# Altium schematic symbol library ICs_EFR.SchLib: 131 symbols (part 2 of 4)
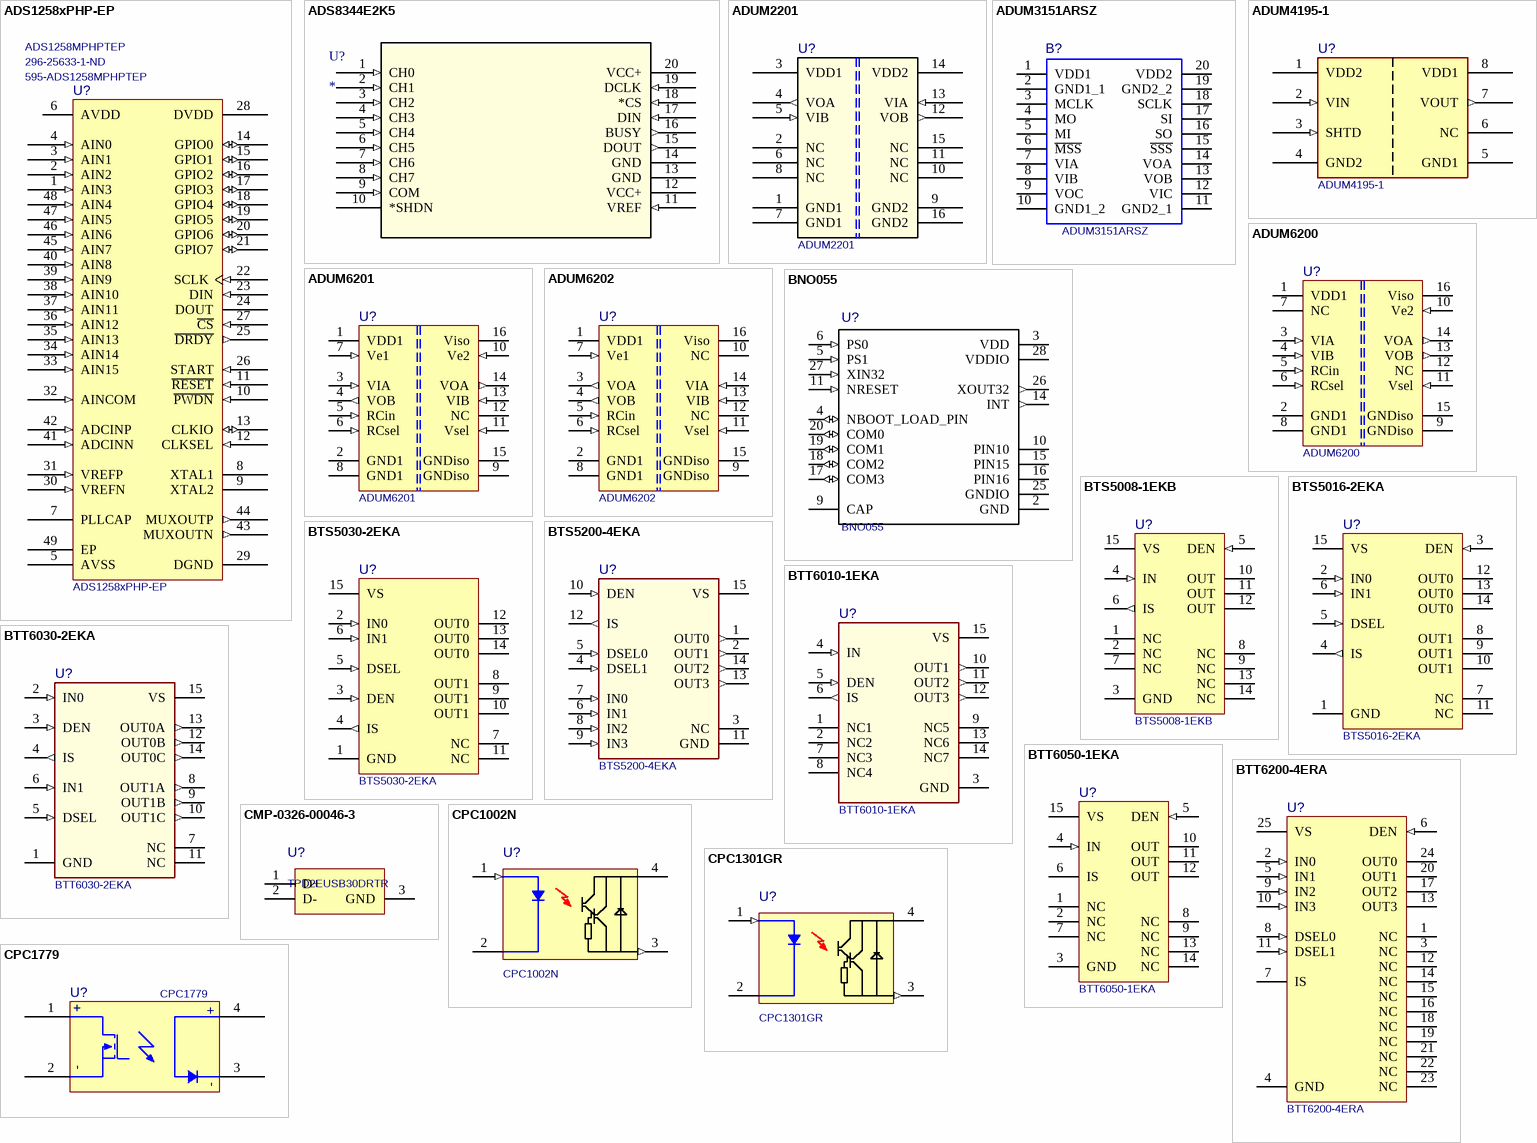
[diagram p9: symbols ADS1258xPHP-EP to CPC1779]

## BTT6030-2EKA
designator U?
Smart High-Side Power Switch, Dual Channel, 32 mOhm; Manufacturer: Infineon Technologies; Manufacturer P/N: BTT6030-2EKA; PackageReference: PG-DSO-14-40 EP; ComponentLink1Description: Datasheet; ComponentLink1URL: https://www.infineon.com/dgdl/Infineon-BTT6030-2EKA-DataSheet-v01_01-EN.pdf?fileId=5546d4626da6c043016dc9516a1f39b6; ComponentLink2Description: Manufacturer; ComponentLink2URL: https://www.infineon.com/cms/en/product/power/smart-low-side-high-side-switches/automotive-smart-high-side-switch-profet/profet-24v/btt6030-2eka/; Mounting Technology: SMT
footprint INF-PG-DSO-14-40_L (SOP, 14-Leads, Body 8.65x3.9mm, Pitch 1.27mm, Thermal Pad 6.5x2.75mm, IPC High Density)
footprint INF-PG-DSO-14-40_N (SOP, 14-Leads, Body 8.65x3.9mm, Pitch 1.27mm, Thermal Pad 6.5x2.75mm, IPC Medium Density)
footprint INF-PG-DSO-14-40_M (SOP, 14-Leads, Body 8.65x3.9mm, Pitch 1.27mm, Thermal Pad 6.5x2.6mm, IPC Low Density)
pins: 1 GND (power) "Ground", 2 IN0 (in) "Input channel 0; Input signal for channel 0 activation.", 3 DEN (in) "Diagnostic Enable; Digital signal to enable/disable the diagnosis of the device.", 4 IS (out) "Sense; Sense current of the selected channel.", 5 DSEL (in) "Diagnostic Selection; Digital signal to select the channel to be diagnosed.", 6 IN1 (in) "Input channel 1; Input signal for channel 1 activation.", 7 NC "Not Connected; No internal connection to the chip.", 8 OUT1A (out) "Output 1; Protected high side power output channel 1.", 9 OUT1B (out) "Output 1; Protected high side power output channel 1.", 10 OUT1C (out) "Output 1; Protected high side power output channel 1.", 11 NC "Not Connected; No internal connection to the chip.", 12 OUT0B (out) "OUTput 0; Protected high side power output channel 0.", 13 OUT0A (out) "OUTput 0; Protected high side power output channel 0.", 14 OUT0C (out) "OUTput 0; Protected high side power output channel 0.", 15 VS (power) "Voltage Supply; Battery voltage"

## BTT6050-1EKA
designator U?
Smart High-Side Power Switch, 5 to 36 V, -40 to 150 degC, PG-DSO-14, Reel, Green; Manufacturer: Infineon; toff (max): 150 us; Ptot (max): 1.6 W; IL (nom)min - all channels active: 4.5 A; Channels: 1; IL(SC): 38 A; Recommended Operating Voltage Max.: 36 V; Green: TRUE; Diagnostic: Sense; Recommended Operating Voltage Min.: 5 V; ComponentLink2URL: https://datasheet.ciiva.com/29899/infineon-btt6050-1eka-ds-v01-00-en-29899189.pdf?src-supplier=Avnet; ton (max): 150 us; PackageDescription: 14-Pin Plastic (Green) Dual Small Outline Package, 8.65 x 3.9 mm Body, 1.27 mm Pitch; PackageVersion: Apr-12; Halogen-free: TRUE; Manufacturer P/N: BTT6050-1EKA; ComponentLink3URL: http://www.infineon.com/cms/packages/SMD_-_Surface_Mounted_Devices/P-PG-DSO/P-PG-DSO-14-33x_-40x_-43.html?__locale=en; PackageReference: PG-DSO-14-47 EP; Mounting: SMD; DatasheetVersion: Rev. 1.0; Load Current (typ): 4.5 A; IL (nom)min - one channel active: 4.5 A; ComponentLink1URL: https://www.mouser.de/Search/Refine?N=4294759026&Keyword=726-BTT6050-1EKA&utm_source=octopart&utm_medium=aggregator&utm_campaign=726-BTT6050-1EKA&utm_content=Infineon; ComponentLink1Description: Manufacturer URL; ComponentLink2Description: Datasheet; IL (SCp): 38 A; Code_JEDEC: MS-012; Mounting Technology: SMT; Packing: Reel; ComponentLink3Description: Package Specification
footprint INF-PG-DSO-14-47 EP_M (SOP, 14-Leads, Body 8.65x3.9mm, Pitch 1.27mm, Thermal Pad 6.5x2.75mm, IPC Low Density)
pins: 1 NC "Not Connected; No internal connection to the chip", 2 NC "Not Connected; No internal connection to the chip", 3 GND (power) "GrouND; Ground connection", 4 IN (in) "INput channel; Input signal for channel activation", 5 DEN (in) "Diagnostic ENable; Digital signal to enable/disable the diagnosis of the device", 6 IS (hiz) "Sense; Sense current of the selected channel", 7 NC "Not Connected; No internal connection to the chip", 8 NC "Not Connected; No internal connection to the chip", 9 NC "Not Connected; No internal connection to the chip", 10 OUT (power) "OUTput; Protected high side power output channel", 11 OUT (power) "OUTput; Protected high side power output channel", 12 OUT (power) "OUTput; Protected high side power output channel", 13 NC "Not Connected; No internal connection to the chip", 14 NC "Not Connected; No internal connection to the chip", 15 VS (power) "Voltage Supply; Battery voltage"

## BTT6200-4ERA
designator U?
4ch Switch with Sense Function, 1 A; Manufacturer P/N: BTT6200-4EMA; Manufacturer: Infineon; Voltage_range: 5 V ... 36 V; Nominal load current (all channels active): 1 A; Nominal load current (one channel active): 1.5 A; Typical current sense ratio: 300; Maximum ON state resistance at   T  J   = 150 °C per channel: 400 m  Ω; ComponentLink1Description: Datasheet; ComponentLink1URL: https://www.infineon.com/dgdl/Infineon-BTT6200-4EMA-DataSheet-v01_00-EN.pdf?fileId=5546d4626da6c043016dc935c44a399f; ComponentLink2Description: Manufacturer; ComponentLink2URL: https://www.infineon.com/cms/en/product/power/smart-low-side-high-side-switches/automotive-smart-high-side-switch-profet/profet-24v/btt6200-4ema/; Mounting Technology: SMT
footprint PG-SSOP-24-14 (SOP, 24-Leads, Body 8,65x3,90mm, Pitch 0,65mm, Thermal Pad 6,65x2,90mm, IPC Medium Density)
pins: 1 NC "Not Connected; No internal connection to the chip", 2 IN0 (in) "INput channel 0; Input signal for channel 0 activation", 3 NC "Not Connected; No internal connection to the chip", 4 GND (power), 5 IN1 (in) "INput channel 1; Input signal for channel 1 activation", 6 DEN (in) "Diagnostic ENable; Digital signal to enable/disable the diagnosis of the device", 7 IS (hiz) "Sense; Sense current of the selected channel", 8 DSEL0 (in) "Diagnostic SELection; Digital signal to select the channel to be diagnosed", 9 IN2 (in) "INput channel 2; Input signal for channel 2 activation", 10 IN3 (in) "INput channel 3; Input signal for channel 3 activation", 11 DSEL1 (in) "Diagnostic SELection; Digital signal to select the channel to be diagnosed", 12 NC "Not Connected; No internal connection to the chip", 13 OUT3 (power) "OUTput 3; Protected high side power output channel 3", 14 NC "Not Connected; No internal connection to the chip", 15 NC "Not Connected; No internal connection to the chip", 16 NC "Not Connected; No internal connection to the chip", 17 OUT2 (power) "OUTput 2; Protected high side power output channel 2", 18 NC "Not Connected; No internal connection to the chip", 19 NC "Not Connected; No internal connection to the chip", 20 OUT1 (power) "OUTput 1; Protected high side power output channel 1", 21 NC "Not Connected; No internal connection to the chip", 22 NC "Not Connected; No internal connection to the chip", 23 NC "Not Connected; No internal connection to the chip", 24 OUT0 (power) "OUTput 0; Protected high side power output channel 0", 25 VS (power) "Voltage Supply; Battery voltage"

## CMP-0326-00046-3
designator U?, comment TPD2EUSB30DRTR
ESD Solution for Super-Speed (6 Gbps) USB 3.0 Interface, 2 Channels, -40 to +85 degC, 3-pin SOT (DRT), Green (Rohs & No Sb/Br); Manufacturer: Texas Instruments; Differential Capacitance(pF): 0.01; Breakdown Voltage(Min)(V): 9; HDMI: TRUE; IEC 61000-4-2 Air-Gap(+/- kV): 8; IO Leakage Current(nA): 10; IO Capacitance(Typ)(pF): 0.7; Mounting Technology: SMT; PackageDescription: 3-Flat Lead Plastic Small Outline, 1 x 1 mm (inc leads), 0.35 mm Pitch; IEC 61000-4-2 Contact(+/- kV): 8; USB Super Speed: TRUE; Eco-Plan: Green (RoHS & no Sb/Br); USB High Speed: TRUE; PackageReference: DRT0003A; SubFamily: ESD Solution; USB Full Speed: TRUE; ComponentLink1Description: Datasheet; ComponentLink2URL: SamplesURL:http://www.ti.com/product/tpd2eusb30#samples; PackageVersion: revD, Jun-2008; ComponentLink2Description: URL Link1; 1394 / Firewire: TRUE; Manufacturer P/N: TPD2EUSB30DRTR; ComponentLink1URL: http://www.ti.com/general/docs/lit/getliterature.tsp?genericPartNumber=TPD2EUSB30&fileType=pdf; DatasheetVersion: SLVSAC2C; Serial ATA / eSATA: TRUE
footprint DRT0003A (SOTFL, 3-Leads, Body 1x1mm (inc leads), Pitch 0.35mm)
pins: 1 D+ "High-speed ESD clamp, provides ESD protection to the high-speed differential data line.", 2 D- "High-speed ESD clamp, provides ESD protection to the high-speed differential data line.", 3 GND (power) "Ground"

## CPC1002N
designator U?
2mA Diodenstrom, 60V Breakdown, 700 mA; Manufacturer: IXYS SEMICONDUCTOR; Height (mm): 2.055; Manufacturer P/N: CPC1002N; ComponentLink1Description: Mouser-Link; ComponentLink1URL: https://www.mouser.de/ProductDetail/IXYS-Integrated-Circuits/CPC1002N?qs=h2iAtNzNjMSWxW51nm%252BAcA%3D%3D; ComponentLink2Description: Datasheet; ComponentLink2URL: https://www.mouser.de/datasheet/2/240/CPC1002N-1546124.pdf; Mounting Technology: SMT
footprint SOP254P610X206-4N
pins: 1 IN+ (in), 2 IN-, 3 OUT2 (out), 4 OUT1 (power)

## CPC1301GR
designator U?
1mA Diodenstrom, 350V Breakdown; Manufacturer: IXYS SEMICONDUCTOR; Manufacturer P/N: CPC1301GR; ComponentLink1Description: Datenblatt von IXYS-Website; ComponentLink1URL: http://www.ixysic.com/home/pdfs.nsf/www/CPC1301.pdf/$file/CPC1301.pdf; ComponentLink2Description: digi-key Produkt; ComponentLink2URL: https://www.mouser.de/datasheet/2/240/CPC1002N-1546124.pdf; Mounting Technology: SMT
footprint SOP254P952X335-4N
pins: 1 IN+ (in), 2 IN-, 3 OUT2 (out), 4 OUT1 (power)

## CPC1779
designator U?
Single-Pole, Normally Open  ISOPLUS-264 DC Power Relay; Manufacturer: IXYS; Manufacturer P/N: CPC1779J; Pin Number: 4; ComponentLink1Description: Datasheet; ComponentLink1URL: http://ixapps.ixys.com/DataSheet/CPC1779.pdf; Mounting Technology: THT; Supplier 1: Mouser; Supplier Part Number 1: 849-CPC1779J
footprint ISOPLUS-264 (ISOPLUS-264, 4-Pin, THT)
footprint ISOPLUS-264 with Heatsink (ISOPLUS-264, 4-Pin, THT)
pins: 1, 2, 3, 4
text: +; -

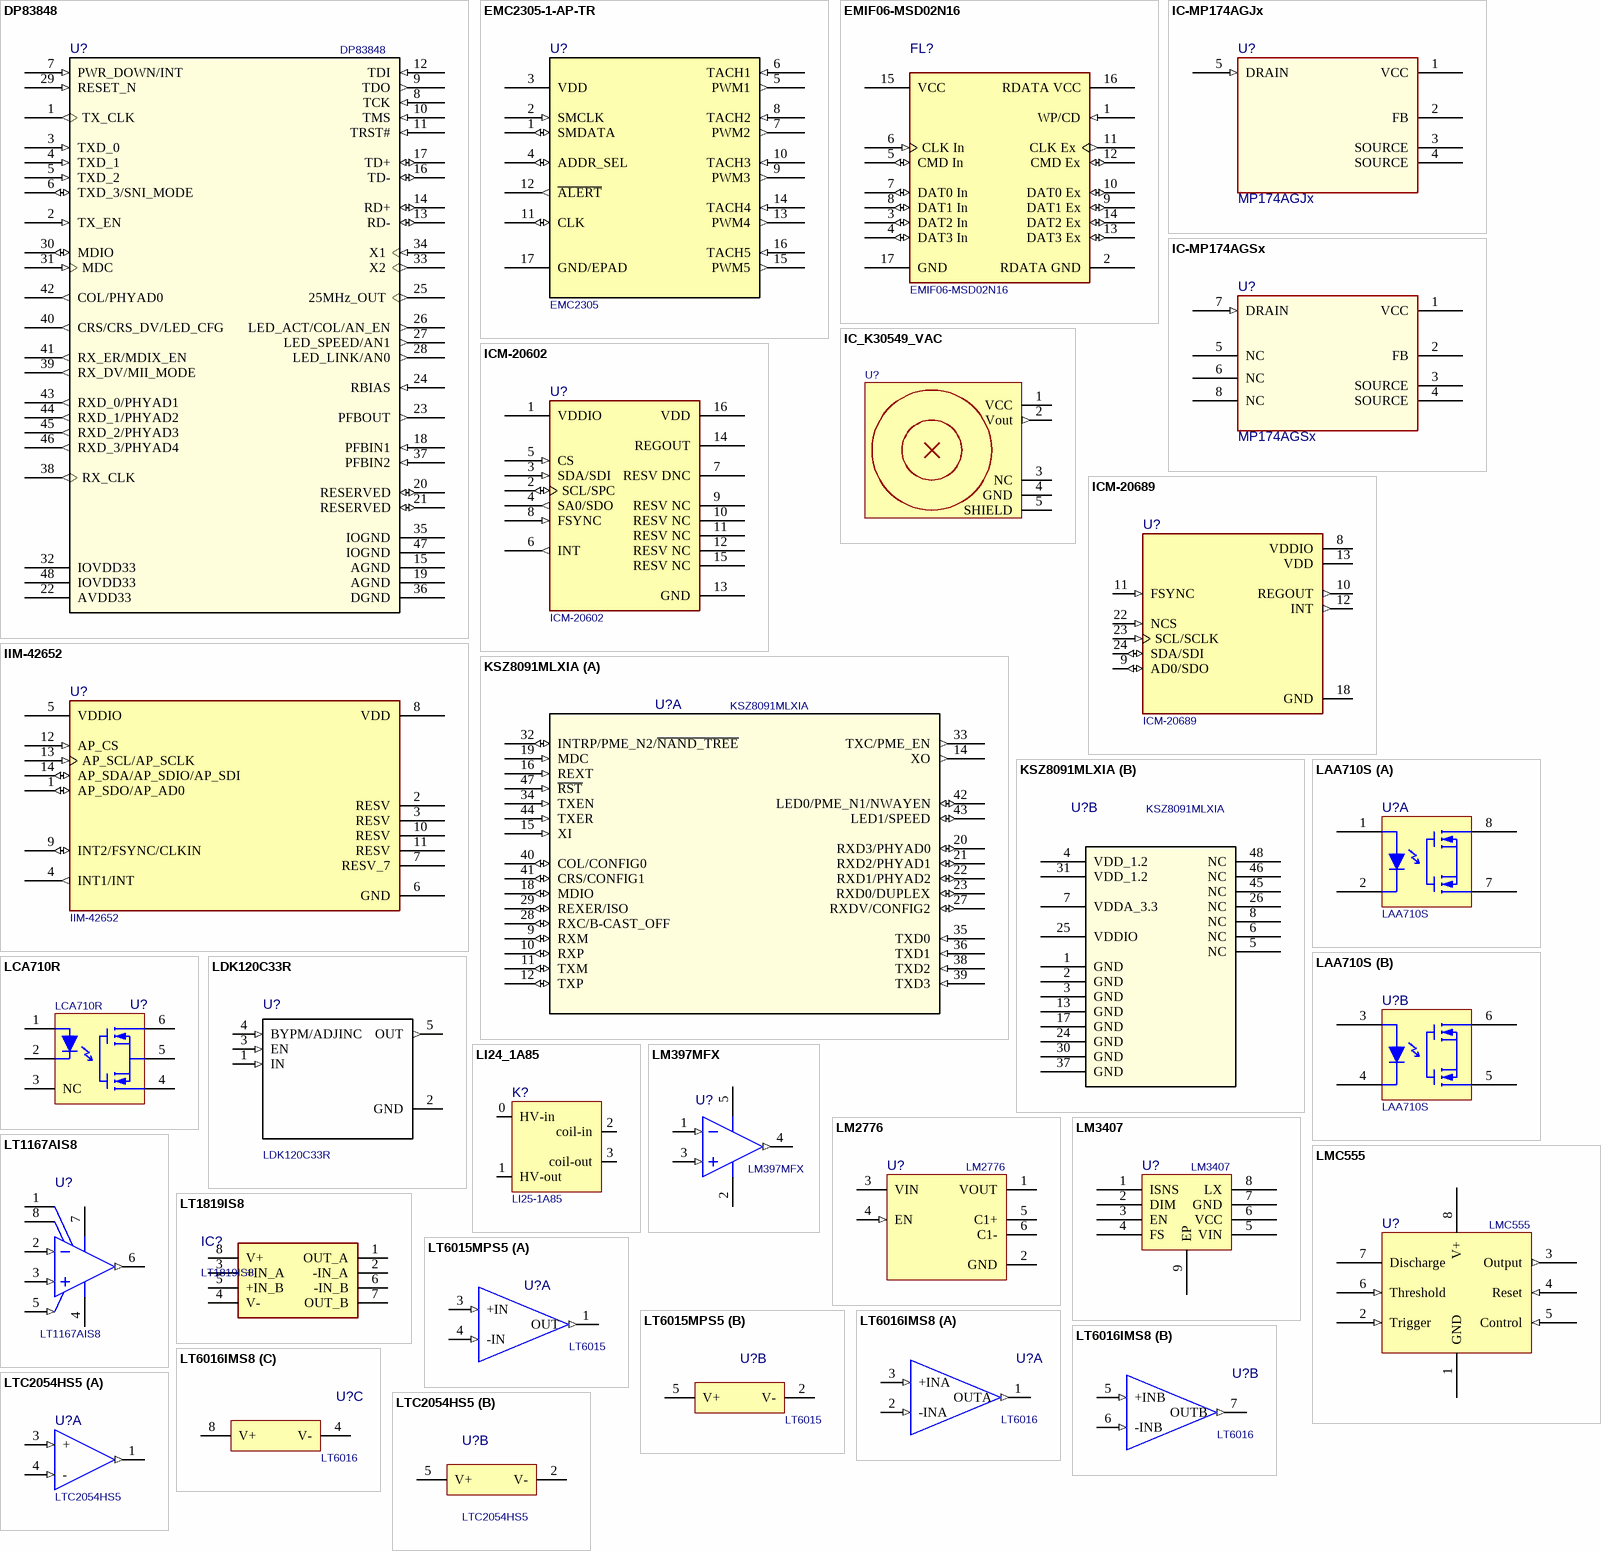
[diagram p3: symbols DP83848 to LTC2054HS5]

## DP83848
designator U?
10/100-Mbps Ethernet PHY transceiver with SNI & JTAG support; Manufacturer P/N: DP83848IVV; Manufacturer: NationalSemiconductor; PackageTopMarking: NSUZXYTTDP83848VVVBI; Pin Number: 48; PowerWise: N; CompType: InterfaceIC; ComponentLink1DescBC: DP83848IDatasheet; ComponentLink2DescA4: DP83848IWebPage; ComponentLink3DescAC: VBH48APackagePage; PackageVersion: revEMay-2007; PackageReference: VBH48A; Publisher: AltiumLimited; PackageDescription: LQFP7x7x14mm48Lead05mmPitch; SUPPLIER_3: 1Farnell; SUPPLIER_2: PartNumb0C1286817; SUPPLIER_4: 2Farnell; Supplier: PartNumb0F1528380; RoHS: Y; ComponentLink1URL: https://www.ti.com/product/DP83848I; ComponentLink2URL: https://www.ti.com/lit/gpn/dp83848i; ComponentLink3URL: http//wwwnationalcom/packaging/folders/vbh48ahtml; ComponentLink1Description: Manufacturer; ComponentLink1URL: *; ComponentLink2Description: Datasheet; ComponentLink2URL: *; Mounting Technology: SMT
footprint LQFP48_L (PT48A) (QFP, 48-Leads, Body 7x7mm, Pitch 0.5mm, IPC High Density)
footprint LQFP48_N (PT48A) (QFP, 48-Leads, Body 7x7mm, Pitch 0.5mm, IPC Medium Density)
footprint LQFP48_M (PT48A) (QFP, 48-Leads, Body 7x7mm, Pitch 0.5mm, IPC Low Density)
pins: 1 TX_CLK (out), 2 TX_EN (in), 3 TXD_0 (in), 4 TXD_1 (in), 5 TXD_2 (in), 6 TXD_3/SNI_MODE (io), 7 PWR_DOWN/INT (in), 8 TCK (in), 9 TDO (out), 10 TMS (in), 11 TRST# (in), 12 TDI (in), 13 RD- (io), 14 RD+ (io), 15 AGND (power), 16 TD- (io), 17 TD+ (io), 18 PFBIN1 (in), 19 AGND (power), 20 RESERVED (io), 21 RESERVED (io), 22 AVDD33 (power), 23 PFBOUT (out), 24 RBIAS (in), 25 25MHz_OUT (out), 26 LED_ACT/COL/AN_EN (out), 27 LED_SPEED/AN1 (out), 28 LED_LINK/AN0 (out), 29 RESET_N (in), 30 MDIO (io), 31 MDC (in), 32 IOVDD33 (power), 33 X2 (out), 34 X1 (in), 35 IOGND (power), 36 DGND (power), 37 PFBIN2 (in), 38 RX_CLK (out), 39 RX_DV/MII_MODE (out), 40 CRS/CRS_DV/LED_CFG (out), 41 RX_ER/MDIX_EN (out), 42 COL/PHYAD0 (out), 43 RXD_0/PHYAD1 (out), 44 RXD_1/PHYAD2 (out), 45 RXD_2/PHYAD3 (out), 46 RXD_3/PHYAD4 (out), 47 IOGND (power), 48 IOVDD33 (power)

## EMC2305-1-AP-TR
designator U?, comment EMC2305
5-Channel RPM-Based PWM Fan Controller; Manufacturer: Microchip; Manufacturer P/N: EMC2305-1-AP-TR; ComponentLink1Description: Datasheet; ComponentLink1URL: https://ww1.microchip.com/downloads/en/DeviceDoc/EMC2301-2-3-5-Data-Sheet-DS20006532A.pdf; ComponentLink2Description: Manufacturer; ComponentLink2URL: https://www.microchip.com/product/EMC2305; Mounting Technology: SMT
footprint QFN16_N (Microchip)
footprint QFN16_M (Microchip)
footprint QFN16_L (Microchip)
pins: 1 SMDATA (io), 2 SMCLK (in), 3 VDD (power), 4 ADDR_SEL (io), 5 PWM1 (out), 6 TACH1 (in), 7 PWM2 (out), 8 TACH2 (in), 9 PWM3 (out), 10 TACH3 (in), 11 CLK (io), 12 ~{ALERT} (out), 13 PWM4 (out), 14 TACH4 (in), 15 PWM5 (out), 16 TACH5 (in), 17 GND/EPAD (power)

## EMIF06-MSD02N16
designator FL?
FILTER RC(PI) 45 OHM/20PF SMD; Manufacturer: STMicroelectronics; Max Breakdown Voltage: 8V; Number of Channels: 6; Capacitance: 20pF; Pin Number: 16; ESD Protection: Yes; Min Operating Temperature: -30°C; Contact Plating: Gold; Width: 0.047inch; Package Quantity: 1; Length: 3.55mm; Mounting Technology: SMT; Breakdown Voltage: 8V; Max Operating Temperature: 85°C; REACH SVHC: No SVHC; Radiation Hardening: No; Depth: 1.25mm; Height: 0.022inch; Termination: Flat; Packaging: Tape and Reel; Case/Package: QFN; Lead Free: Lead Free; Manufacturer P/N: EMIF06-MSD02N16; ComponentLink1Description: Website; ComponentLink1URL: https://www.st.com/en/protections-and-emi-filters/emif06-msd02n16.html; ComponentLink2Description: Datasheet; ComponentLink2URL: https://www.st.com/resource/en/datasheet/emif06-msd02n16.pdf; Supplier 1: Mouser; Supplier Part Number 1: 511-EMIF06-MSD02N16
footprint uQFP02N16
pins: 1 WP/CD (in), 2 RDATA GND (power), 3 DAT2 In (io), 4 DAT3 In (io), 5 CMD In (io), 6 CLK In (in), 7 DAT0 In (io), 8 DAT1 In (io), 9 DAT1 Ex (io), 10 DAT0 Ex (io), 11 CLK Ex (out), 12 CMD Ex (io), 13 DAT3 Ex (io), 14 DAT2 Ex (io), 15 VCC (power), 16 RDATA VCC (power), 17 GND (power)

## IC-MP174AGJx
designator U?, comment MP174AGJx
700V Non-Isolated Off-Line Regulator, Up to 400mA Output Current; Manufacturer: Monolithic Power Systems; Pin Number: 5; Manufacturer P/N: MP174AGJx; ComponentLink1Description: Datasheet; ComponentLink1URL: https://www.monolithicpower.com/en/documentview/productdocument/index/version/2/document_type/Datasheet/lang/en/sku/MP174A/document_id/4855/; Mounting Technology: SMT; Height (mm): 1; Length (mm): 3; Width (mm): 3
footprint SOT23-5_N (DBV5)
pins: 1 VCC (power), 2 FB, 3 SOURCE, 4 SOURCE, 5 DRAIN (in)

## IC-MP174AGSx
designator U?, comment MP174AGSx
700V Non-Isolated Off-Line Regulator, Up to 400mA Output Current; Manufacturer: Monolithic Power Systems; Manufacturer P/N: MP174AGJx; Pin Number: 5; ComponentLink1Description: Datasheet; ComponentLink1URL: https://www.monolithicpower.com/en/documentview/productdocument/index/version/2/document_type/Datasheet/lang/en/sku/MP174A/document_id/4855/; Mounting Technology: SMT; Height (mm): 1; Length (mm): 3; Width (mm): 3
footprint SOIC-8_N (R_8_ADI)
pins: 1 VCC (power), 2 FB, 3 SOURCE, 4 SOURCE, 5 NC, 6 NC, 7 DRAIN (in), 8 NC

## IC_K30549_VAC
designator U?, comment VAC-K30549  (value not drawn)
300A Open Loop Current Sensor for EV/(P)HEV automotive application.; Manufacturer: Vacuumschmelze; Primary nominal current (A): 300; Primary maximum peak current (A): 450; ComponentLink1Description: Datasheet; ComponentLink1URL: https://drive.google.com/file/d/1PKoGThfhC-0kT0Qr2QoFz8oCPMKyi9ti/view?usp=sharing
footprint VAC_auto_current_sens_1.27_pitch
pins: 1 VCC (power), 2 Vout (out), 3 NC, 4 GND, 5 SHIELD

## ICM-20602
designator U?
Accelerometer, Gyroscope, Temperature, 6 Axis Sensor I2C, SPI Output; Manufacturer: TDK InvenSense; Package: PQFN-16 TDK-InvenSense; SnapEDA_Link: https://www.snapeda.com/parts/ICM-20602/TDK%20InvenSense/view-part/474472/?ref=snap; Manufacturer P/N: ICM-20602; Mounting Technology: SMT; ComponentLink1Description: Manufacturer; ComponentLink1URL: https://invensense.tdk.com/products/motion-tracking/6-axis/icm-20602/; ComponentLink2Description: Datasheet; ComponentLink2URL: https://invensense.tdk.com/download-pdf/icm-20602-datasheet-2/; ComponentLink3Description: SnapEDA; ComponentLink3URL: https://www.snapeda.com/parts/ICM-20602/TDK%20InvenSense/view-part/474472/?ref=snap
footprint PQFN50P300X300X80-16N
pins: 1 VDDIO (power), 2 SCL/SPC (io), 3 SDA/SDI (in), 4 SA0/SDO (out), 5 CS (in), 6 INT (out), 7 RESV DNC, 8 FSYNC (in), 9 RESV NC, 10 RESV NC, 11 RESV NC, 12 RESV NC, 13 GND (power), 14 REGOUT, 15 RESV NC, 16 VDD (power)

## ICM-20689
designator U?
Accelerometer, Gyroscope, Temperature, 6 Axis Sensor IÂ²C, SPI Output; Manufacturer: TDK InvenSense; SnapEDA_Link: https://www.snapeda.com/parts/ICM-20689/TDK%20InvenSense/view-part/537724/?ref=snap; Package: QFN-24 InvenSense; Manufacturer P/N: ICM-20689; Mounting Technology: SMT
footprint QFN50P400X400X95-24N
pins: 8 VDDIO (power), 9 AD0/SDO (io), 10 REGOUT (out), 11 FSYNC (in), 12 INT (out), 13 VDD (power), 18 GND (power), 22 NCS (in), 23 SCL/SCLK (in), 24 SDA/SDI (io)

## IIM-42652
designator U?
Accelerometer X, Y, Z Axis Â±2g, 4g, 8g, 16g 6.25Hz ~ 16kHz 14-LGA (2.5x3); Manufacturer: TDK InvenSense; Manufacturer P/N: IIM-42652; SnapEDA_Link: https://www.snapeda.com/parts/IIM-42652/TDK%20InvenSense/view-part/5873749/?ref=snap; Mounting Technology: SMT; ComponentLink1Description: Manufacturer; ComponentLink1URL: https://product.tdk.com/en/search/sensor/mortion-inertial/imu/info?part_no=IIM-42652; ComponentLink2Description: Datasheet; ComponentLink2URL: https://product.tdk.com/system/files/dam/doc/product/sensor/mortion-inertial/imu/data_sheet/ds-000401-iim-42652.pdf; ComponentLink3Description: SnapEDA; ComponentLink3URL: https://www.snapeda.com/parts/IIM-42652/TDK%20InvenSense/view-part/5873749/?ref=snap
footprint LGA14_TDK
pins: 1 AP_SDO/AP_AD0 (io), 2 RESV, 3 RESV, 4 INT1/INT (out), 5 VDDIO (power), 6 GND (power), 7 RESV_7, 8 VDD (power), 9 INT2/FSYNC/CLKIN (io), 10 RESV, 11 RESV, 12 AP_CS (in), 13 AP_SCL/AP_SCLK (in), 14 AP_SDA/AP_SDIO/AP_SDI (io)

## KSZ8091MLXIA
designator U?
10Base-T/100Base-TX Physical Layer Transceiver with Power Saving Features; Manufacturer: Microchip; Manufacturer P/N: KSZ8091MLXIA; Mounting Technology: SMT; ComponentLink1Description: Datasheet; ComponentLink1URL: https://ww1.microchip.com/downloads/en/DeviceDoc/00002297A.pdf; ComponentLink2Description: Manufacturer; ComponentLink2URL: https://www.microchip.com/wwwproducts/en/KSZ8091
footprint LQFP48_L (PT48A) (QFP, 48-Leads, Body 7x7mm, Pitch 0.5mm, IPC High Density)
footprint LQFP48_M (PT48A) (QFP, 48-Leads, Body 7x7mm, Pitch 0.5mm, IPC Low Density)
footprint LQFP48_N (PT48A) (QFP, 48-Leads, Body 7x7mm, Pitch 0.5mm, IPC Medium Density)
part A pins: 9 RXM (io), 10 RXP (io), 11 TXM (io), 12 TXP (io), 14 XO (out), 15 XI (in), 16 REXT (in), 18 MDIO (io), 19 MDC (in), 20 RXD3/PHYAD0 (io), 21 RXD2/PHYAD1 (io), 22 RXD1/PHYAD2 (io), 23 RXD0/DUPLEX (io), 27 RXDV/CONFIG2 (io), 28 RXC/B-CAST_OFF (io), 29 REXER/ISO (io), 32 INTRP/PME_N2/~{NAND_TREE} (io), 33 TXC/PME_EN (out), 34 TXEN (in), 35 TXD0 (in), 36 TXD1 (in), 38 TXD2 (in), 39 TXD3 (in), 40 COL/CONFIG0 (io), 41 CRS/CONFIG1 (io), 42 LED0/PME_N1/NWAYEN (io), 43 LED1/SPEED (io), 44 TXER (in), 47 ~{RST} (in)
part B pins: 1 GND, 2 GND, 3 GND, 4 VDD_1.2 (power), 5 NC, 6 NC, 7 VDDA_3.3 (power), 8 NC, 13 GND, 17 GND, 24 GND, 25 VDDIO (power), 26 NC, 30 GND, 31 VDD_1.2 (power), 37 GND, 45 NC, 46 NC, 48 NC

## LAA710S
designator U?
Double Solid State Relays - PCB Mount Single Pole OptoMOS 1-Form-A, 60V, 1A; Manufacturer: IXYS SEMICONDUCTOR; Height (mm): 4.572; Manufacturer P/N: LAA710S; ComponentLink1Description: Datasheet; ComponentLink1URL: https://www.mouser.de/datasheet/2/240/LAA710-1547779.pdf; Mounting Technology: SMT
footprint SOP254P952X457-8N
part A pins: 1 A, 2 K, 7 S', 8 S
part B pins: 3 A, 4 K, 5 S', 6 S

## LCA710R
designator U?
Solid State Relays - PCB Mount Single Pole OptoMOS 1-Form-A, 60V, 1A; Manufacturer: Ixys Clare; Isolation Voltage: 3.75kV; Case/Pakage: SMD DIP-6; Input Current: 50mA; Onstate Resistance: 500mR; Packageing: Rail/Tube; Load Current: 1A; Lead Free: Lead Free; Manufacturer P/N: LCA710R; Category: Solid State Relais; Max Operating Temp.: 85°; Max Output Voltage: 60V; Min Operating Temp.: -40°; Mounting Technology: SMT; Output Current: 1A; ComponentLink1Description: Maufacturer; ComponentLink1URL: https://www.mouser.de/ProductDetail/IXYS-Integrated-Circuits/LCA710STR?qs=sGAEpiMZZMsUriz2CNI3E0bxyj4gwKaXQYju9WODtmI%3D; ComponentLink2Description: Datasheet; ComponentLink2URL: https://datasheet.ciiva.com/15711/3lca710-15711264.pdf?src-supplier=Onlinecomponents.com; Supplier 1: Mouser; Supplier Part Number 1: 849-LCA710R; Supplier 2: Mouser; Supplier Part Number 2: 849-LCA710RTR
footprint DIP-6_SMD (Footprint not found)
pins: 1 A, 2 K, 3 NC, 4 S', 5 DC, 6 S

## LDK120C33R
designator U?
Linear Voltage Regulator IC 1 Output 200mA SOT-323-5; Manufacturer: STMicroelectronics; Pin Number: 5; Package: SOT-323 STMicroelectronics; Manufacturer P/N: LDK120C33R; ComponentLink1Description: Website; ComponentLink1URL: https://www.st.com/en/power-management/ldk120.html; ComponentLink2Description: Datasheet; ComponentLink2URL: https://www.st.com/resource/en/datasheet/ldk120.pdf; ComponentLink3Description: SnapEDA; ComponentLink3URL: https://www.snapeda.com/parts/LDK120C33R/STMicroelectronics/view-part/1196875/?ref=snap; Mounting Technology: SMT; Supplier 1: Mouser; Supplier Part Number 1: 511-LDK120C33R; Parameter 5: *
footprint SOT65P210X110-5N
pins: 1 IN (in), 2 GND (power), 3 EN (in), 4 BYPM/ADJINC (in), 5 OUT (out)

## LI24_1A85
designator K?, comment LI25-1A85
Reed Relays 100 W 1A 24VDC A NO 1000V; Manufacturer: MEDER electronic (Standex); Manufacturer P/N: LI24-1A85; Pin Number: 4; Mounting Technology: THT; Supplier 1: Mouser; Supplier Part Number 1: 876-LI24-1A85
footprint LI12-1A85
pins: 0 HV-in, 1 HV-out, 2 coil-in, 3 coil-out

## LM397MFX
designator U?
Single General Purpose Voltage Comparator, 5-pin SOT-23; Manufacturer: National Semiconductor; PowerWise: N; PackageTopMarking: C397*XTT; Pin Number: 5; RevisionNote: Component URLs added; PackageReference: MF05A; PackageDescription: Molded SOT-23, .115 x .063 x .040 in Body, 5 Lead, .0375 in Pitch; ComponentLink2Description: LM397 Web Page; ComponentLink2URL: http://www.national.com/pf/LM/LM397.html; DatasheetVersion: Aug-2006; PackageVersion: revD, Aug-2008; ComponentLink3Description: MF05A Package Page; ComponentLink1Description: LM397 Datasheet; ComponentLink1URL: http://www.national.com/ds/LM/LM397.pdf; RoHS: N; CompType: Comparator; ComponentLink3URL: http://www.national.com/packaging/folders/mf05a.html; Manufacturer P/N: LM397MFX; Mounting Technology: SMT
footprint MF05A_M (SOT23, 5-Leads, Body 2.9x1.6mm, Pitch 0.95mm, Lead Span 2.8mm, IPC Low Density)
pins: 1 IN- (in), 2 GND (power), 3 IN+ (in), 4 OUT (out), 5 VS (power)

## LM2776
designator U?
LM2776 Switched Capacitor Inverter; Manufacturer P/N: LM2776DBVR; Manufacturer: Texas Instruments; Pin Number: 6; ComponentLink1Description: Datasheet (Online); ComponentLink1URL: http://www.ti.com/lit/ds/symlink/lm2776.pdf; ComponentLink2Description: Datasheet (Local); ComponentLink2URL: ..\Datasheet\Texas_Instruments\lm2776.pdf; ComponentLink3Description: Datasheet (SVN); ComponentLink3URL: https://teamsvn.elbflorace.de/00_Bibliothek/Libraries/Altium/AltiumLibs/Datasheet/Texas_Instruments/lm2776.pdf; ComponentLink4Description: Manufacturer-Site; ComponentLink4URL: http://www.ti.com/product/LM2776; Package: SOT-23; Mounting Technology: SMT
footprint SOT23-6_N
footprint SOT23-6_M
footprint SOT23-6_L
3D model SOT-23 (PCB3D Model)
pins: 1 VOUT (power) "Negative voltage output", 2 GND (power) "Power supply ground input.", 3 VIN (power) "Power supply positive voltage input", 4 EN (in) "Enable control pin, tie this pin high (EN = 1) for normal operation,and to GND(EN= 0) for shutdown", 5 C1+ "Connect this pin to the positive terminal of the charge-pump capacitor.", 6 C1- "Connect this pin to the negative terminal of the charge-pump capacitor."

## LM3407
designator U?
LM3407350-mA,ConstantCurrentOutputFloatingBuck SwitchingConverterfor High-PowerLEDs; Manufacturer: Texas Instruments; Manufacturer P/N: LM3407MY/NOPB; Pin Number: 8; ComponentLink1Description: Datasheet; ComponentLink1URL: http://www.ti.com/lit/ds/symlink/lm3407.pdf; ComponentLink2Description: Manufacturer; ComponentLink2URL: http://www.ti.com/product/LM3407; ComponentLink3Description: Package Description; ComponentLink3URL: http://www.ti.com/lit/ml/mpds046e/mpds046e.pdf; Mounting Technology: SMT
footprint S-PDSO-G8_N (TI PowerPAD TM Plastic small outline)
footprint S-PDSO-G8_M (TI PowerPAD TM Plastic small outline)
footprint S-PDSO-G8_L (TI PowerPAD TM Plastic small outline)
pins: 1 ISNS "Connect resistor RISNS from this pin to ground for LED current sensing. The current sensing resistor should be placed close to this pin.", 2 DIM "PWM Dimming Control Pin. Applying a logic level PWM signal to this pin controls the intended brightness of the LED string.", 3 EN "Applying logic high to this pin or leaving it openenables the switcher. When pulled low the switcher is disabled and will enter low power shutdown mode", 4 FS "Switching Frequency Setting Pin. Connect resistor RFS from this pin to ground to set the switching frequency.", 5 VIN "Input Voltage Pin. The input voltage should be in the range of 4.5 V to 30 V", 6 VCC "Internal Regulator Output Pin. This pin should be bypassed to ground by a ceramic capacitor with a minimum value of 1 μF.", 7 GND "This pin should be connected to the system ground.", 8 LX "Drain of N-MOSFET Switch. Connect this pin to the output inductor and anode of the Schottky diode.", 9 EP "Thermal Pad (Power Ground). Used to dissipate heat from the package during operation. Must be electrically connected to GND external to the package."

## LMC555
designator U?  Manufacturer P/N: LMC555
Timer CMOS; Manufacturer: Texas Instruments; Rev: =VersionControl_RevNumber; ComponentLink1Description: Datasheet; ComponentLink1URL: http://www.ti.com/lit/ds/symlink/lmc555.pdf; ComponentLink2Description: Manufacturer; ComponentLink2URL: http://www.ti.com/product/LMC555; Mounting Technology: SMT
footprint SOIC-08
pins: 1 GND (power), 2 Trigger (in) "Responsible for transition of the flip-flop from set to reset. The output of the timer depends on the amplitude of the external trigger pulse applied to this pin", 3 Output (out) "Output driven waveform", 4 Reset (in) "Negative pulse applied to this pin to disable or reset the timer. When not used for reset purposes, it should be connected to VCC to avoid false triggering", 5 Control (in) "Control voltage controls the threshold and trigger levels. It determines the pulse width of the output waveform. An external voltage applied to this pin can also be used to modulate the output waveform", 6 Threshold (in) "Compares the voltage applied to the terminal with a reference voltage of 2/3 Vcc. The amplitude of voltage applied to this terminal is responsible for the set state of the flip-flop", 7 Discharge (oc) "Open collector output which discharges a capacitor between intervals (in phase with output). It toggles the output from high to low when voltage reaches 2/3 of the supply voltage", 8 V+ (power)

## LT1167AIS8
designator U?
Single Channel, Precision Operational Amplifier, Low Bias Current IA, 1 MHz Typical GBW, 1.2 V/us Typical SR, 4.6 to 40 V, 8-Pin SOIC (S8-8), Industrial, Pb-Free; Linear Technology Part Number: LT1167; Manufacturer P/N: LT1167AIS8#PBF; Manufacturer: Linear Technology; Is (mA) Typical: 0.9; Channels (#): 1; Vos (mV) Typical: 0.015; Vs Min (V): 4.6; SR (V/us) Typical: 1.2; Vs Max (V): 40; ComponentLink1Description: Manufacturer URL; ComponentLink2Description: Datasheet; RevisionNote: URLs updated; PackageDescription: 8-Pin Plastic Small Outline, Body 4.9 x 3.9 mm, Pitch 1.27 mm; ComponentLink2URL: https://cds.linear.com/docs/en/datasheet/1167fc.pdf; DatasheetVersion: Rev. C; ComponentLink3Description: Package Specification; ComponentLink3URL: https://cds.linear.com/docs/en/packaging/05081610_G_SO8.pdf; PackageVersion: Rev G; PackageReference: LT-S8-8; Mounting Technology: SMT; ComponentLink1URL: https://www.analog.com/en/products/lt1167.html; GBW (MHz) Typical: 1; Type: IA; RoHS: Pb-Free
footprint SOIC-8_L (R_8_ADI)
footprint SOIC-8_N (R_8_ADI)
footprint SOIC-8_M (R_8_ADI)
pins: 1 RG, 2 -IN (in), 3 +IN (in), 4 -VS (power), 5 REF (in), 6 OUTPUT (out), 7 +VS (power), 8 RG

## LT1819IS8
designator IC?
single/dual wide bandwidth, high / slew rate, low noise and distortion operational amplifi ers / with excellent DC performance; Manufacturer: Linear Technology; Manufacturer P/N: LT1819IS8#PBF; Datasheet Link: http://www.farnell.com/datasheets/1692381.pdf; Height: 1.752mm; Supplier Part Number 1: 584-LT1819IS8#PBF; Supplier 1: Mouser; Mounting Technology: SMT
footprint SOIC127P599X175-8N
pins: 1 OUT_A, 2 -IN_A, 3 +IN_A, 4 V-, 5 +IN_B, 6 -IN_B, 7 OUT_B, 8 V+

## LT6015MPS5
designator U?, comment LT6015
Low Power, Over-The-Top / Precision Op Amps / 3.2MHz, 0.8V/μs; Manufacturer: Analog Devices / Linear Technology; Manufacturer P/N: LT6015MPS5; Pin Number: 23; Bandwidth: 3.3MHz; Number of Circuits: 1; Input Bias Current: 2nA; Input Offset Voltage (Vos): 55uV; Operating Supply Current: 325uA; Output Current per Channel: 32mA; ComponentLink1Description: Manufacturer; ComponentLink1URL: https://www.analog.com/en/products/lt6016.html; ComponentLink2Description: Datasheet; ComponentLink2URL: https://www.analog.com/media/en/technical-documentation/data-sheets/601567ff.pdf; Supplier 1: Digi-Key; RoHS: Yes; Category: Amplifiers - Op Amps, Buffer, Instrumentation; Stock 1: 3303; Pricing 1: 1=7,42000, 10=6,70000, 25=6,38880, 100=5,54720, 250=5,29788 (USD); Mounting Technology: SMT; Case/Package: SOT-23-5; Min Operating Temperature: -55°C; Max Operating Temperature: 150°C; Slew Rate: 0.8V/µs; Package Quantity: 500; Packaging: Tape and Reel; Gain Bandwidth Product: 3.3MHz; Number of Amplifiers: 1; RoHS Compliant: Yes; REACH SVHC: No SVHC; Supplier Part Number 1: LT6015MPS5#TRMPBFCT-ND
footprint TSOT-23_L
footprint TSOT-23_N
footprint TSOT-23_M
footprint TSOT-23_MFG
part A pins: 1 OUT (out), 3 +IN (in), 4 -IN (in)
part B pins: 2 V- (power), 5 V+ (power)

## LT6016IMS8
designator U?, comment LT6016
Low Power, Over-The-Top / Precision Op Amps / 3.2MHz, 0.8V/μs; Manufacturer: Analog Devices / Linear Technology; Manufacturer P/N: LT6016IMS8#PBF; Pin Number: 8; Common Mode Rejection Ratio: 100dB; Max Supply Voltage: 50V; Min Supply Voltage: 3V; Min Dual Supply Voltage: 1.5V; Max Dual Supply Voltage: 15V; Number of Elements: 2; Input Offset Voltage (Vos): 50uV; Voltage Gain: 129.54dB; Power Supply Rejection Ratio (PSRR): 110dB; Nominal Supply Current: 315uA; ComponentLink1Description: Manufacturer; ComponentLink1URL: https://www.analog.com/en/products/lt6016.html; ComponentLink2Description: Datasheet; ComponentLink2URL: https://www.analog.com/media/en/technical-documentation/data-sheets/601567ff.pdf; Supplier 1: RSComponents; RoHS: Yes; Category: Amplifiers - Op Amps, Buffer, Instrumentation; Stock 1: 1; Pricing 1: 2=6,30600, 26=4,19000 (USD); Mounting Technology: SMT; Case/Package: MSOP; Min Operating Temperature: -40°C; Max Operating Temperature: 85°C; Package Quantity: 50; Series: *; Technology: BIPOLAR; Supply Current: 315uA; RoHS Compliant: Yes; Lead Free: Lead Free; Supplier Part Number 1: 8516878P
footprint MSOP_8 _L (ADI-RM) (SOP, 8-Leads, Body 3x3mm, Pitch 0.65mm, IPC High Density)
footprint MSOP_8 _N (ADI-RM) (SOP, 8-Leads, Body 3x3mm, Pitch 0.65mm, IPC Medium Density)
footprint MSOP_8 _M (ADI-RM) (SOP, 8-Leads, Body 3x3mm, Pitch 0.65mm, IPC Low Density)
part A pins: 1 OUTA (out), 2 -INA (in), 3 +INA (in)
part B pins: 5 +INB (in), 6 -INB (in), 7 OUTB (out)
part C pins: 4 V- (power), 8 V+ (power)

## LTC2054HS5
designator U?
Single Micropower Zero-Drift Operational Amplifiers; Manufacturer: Analog Devices; Pin Number: 5; Package: SOT-5 Analog Devices; Manufacturer P/N: LTC2054HS5; ComponentLink1Description: Website; ComponentLink1URL: https://www.analog.com/en/products/ltc2054.html; ComponentLink2Description: Datasheet; ComponentLink2URL: https://www.analog.com/media/en/technical-documentation/data-sheets/20545fc.pdf; ComponentLink3Description: SnapEDA; ComponentLink3URL: https://www.snapeda.com/parts/LTC2054HS5%23TRMPBF/Analog+Devices/view-part/?ref=snap; Mounting Technology: SMT; Supplier 1: Mouser; Supplier Part Number 1: 584-LTC2054HS5#TRPBF; Supplier 2: Mouser; Supplier Part Number 2: 584-LTC2054HS5TRMPBF
footprint TSOT-23_L
footprint TSOT-23_N
footprint TSOT-23_M
footprint TSOT-23_MFG
part A pins: 1 OUT (out) "Output", 3 + (in) "Input", 4 - (in) "Input"
part B pins: 2 V- (power) "Ground", 5 V+ (power) "Power terminal"

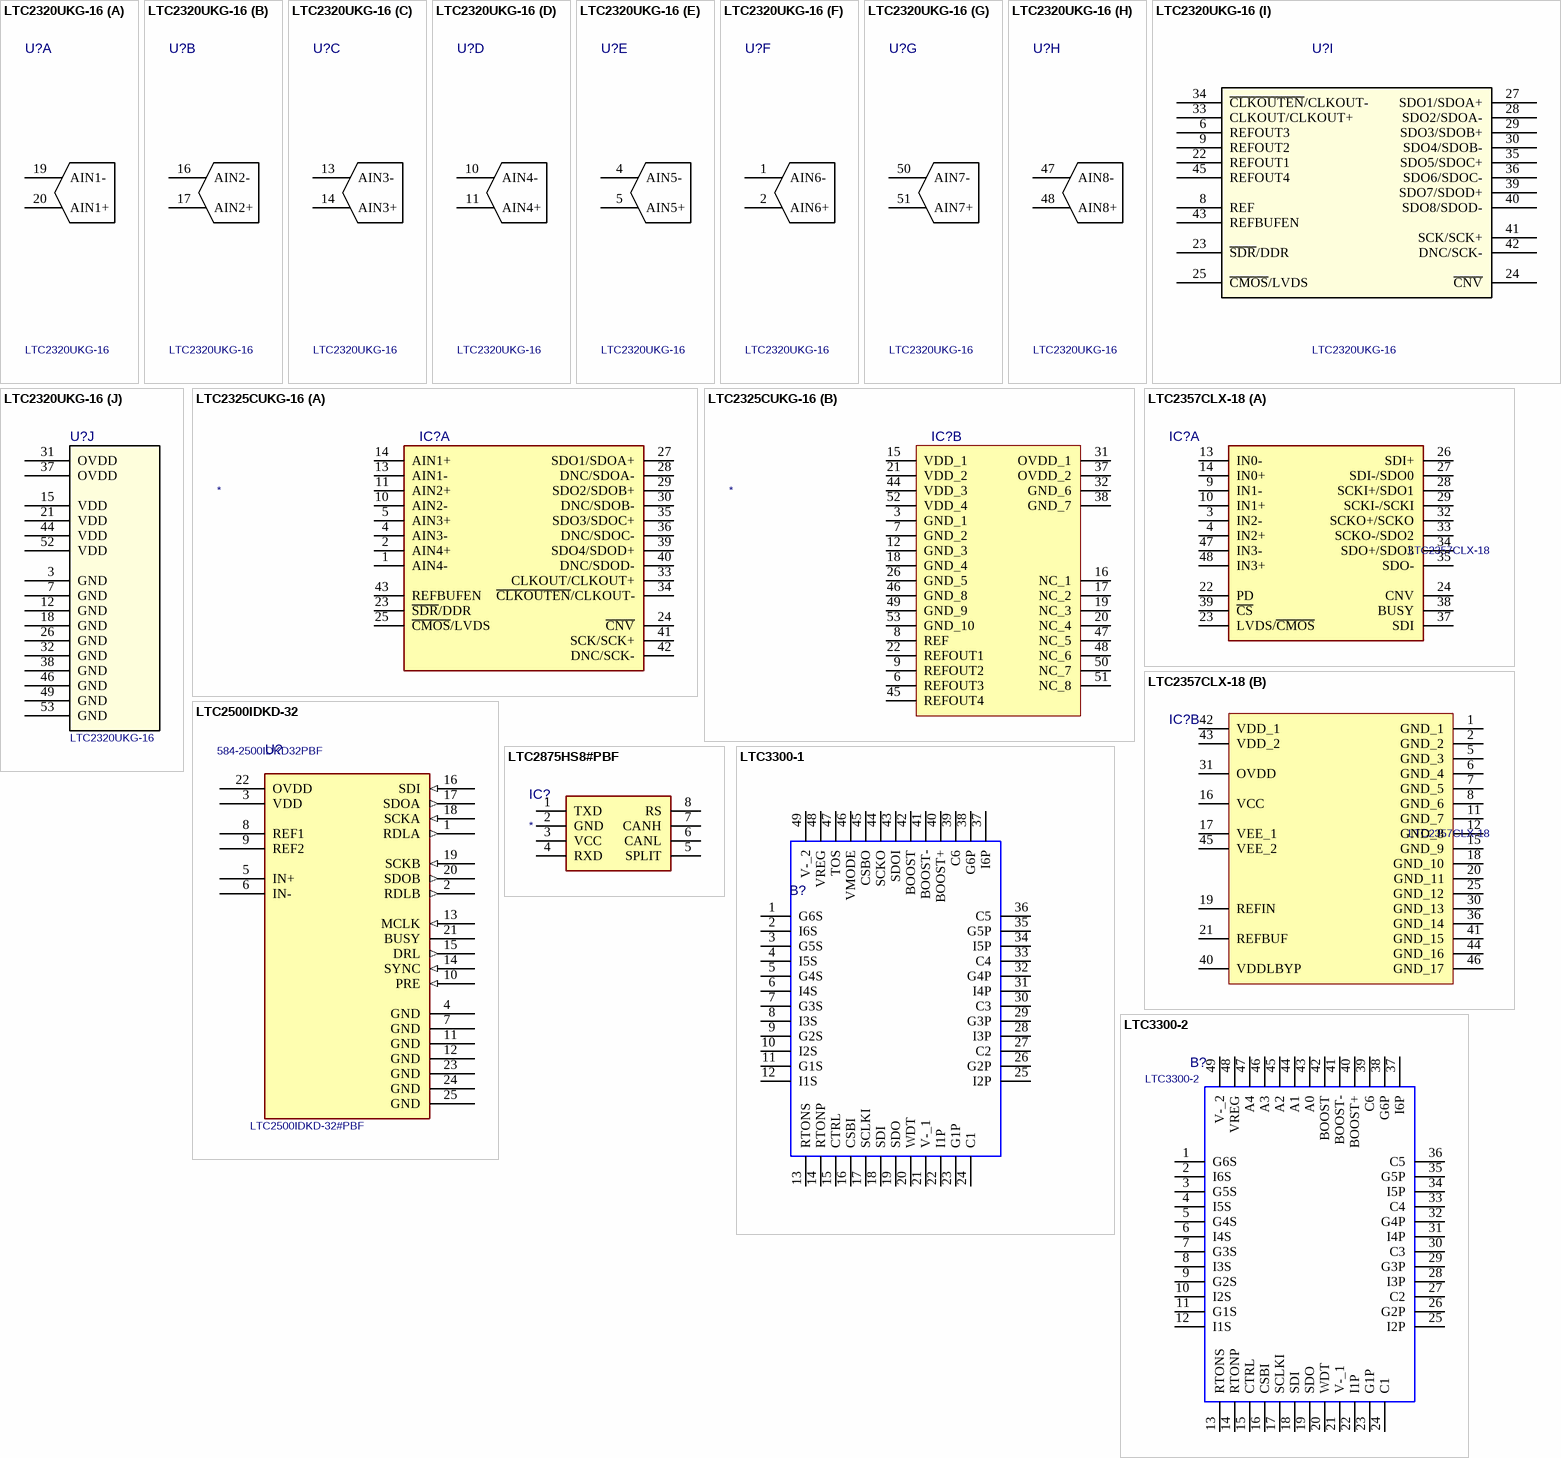
[diagram p4: symbols LTC2320UKG-16 to LTC3300-2]

## LTC2320UKG-16
designator U?
Octal, 16-Bit, 1.5Msps/Ch Simultaneous Sampling ADC; Manufacturer P/N: LTC2320IUKG-16#PBF; Manufacturer: Analog Devices Inc; Mounting Technology: SMT
footprint QFN_52_UKG_L
footprint QFN_52_UKG_N
footprint QFN_52_UKG_M
part A pins: 19 AIN1-, 20 AIN1+
part B pins: 16 AIN2-, 17 AIN2+
part C pins: 13 AIN3-, 14 AIN3+
part D pins: 10 AIN4-, 11 AIN4+
part E pins: 4 AIN5-, 5 AIN5+
part F pins: 1 AIN6-, 2 AIN6+
part G pins: 50 AIN7-, 51 AIN7+
part H pins: 47 AIN8-, 48 AIN8+
part I pins: 6 REFOUT3, 8 REF, 9 REFOUT2, 22 REFOUT1, 23 ~{SDR}/DDR, 24 ~{CNV}, 25 ~{CMOS}/LVDS, 27 SDO1/SDOA+, 28 SDO2/SDOA-, 29 SDO3/SDOB+, 30 SDO4/SDOB-, 33 CLKOUT/CLKOUT+, 34 ~{CLKOUTEN}/CLKOUT-, 35 SDO5/SDOC+, 36 SDO6/SDOC-, 39 SDO7/SDOD+, 40 SDO8/SDOD-, 41 SCK/SCK+, 42 DNC/SCK-, 43 REFBUFEN, 45 REFOUT4
part J pins: 3 GND, 7 GND, 12 GND, 15 VDD, 18 GND, 21 VDD, 26 GND, 31 OVDD, 32 GND, 37 OVDD, 38 GND, 44 VDD, 46 GND, 49 GND, 52 VDD, 53 GND

## LTC2325CUKG-16
designator IC?
low noise, high speed quad 16-bit / successive approximation register (SAR) ADC with / differential inputs and wide input common mode range.; Manufacturer: Analog Devices; Manufacturer P/N: LTC2325CUKG-16#PBF; Datasheet Link: https://www.analog.com/media/en/technical-documentation/data-sheets/232516fa.pdf; Height: 0.8mm; Mouser Part Number: 584-2325CUKG16PBF; Mouser Price/Stock: https://www.mouser.com/Search/Refine.aspx?Keyword=584-2325CUKG16PBF; Mounting Technology: SMT
footprint QFN50P700X800X80-53N-D
part A pins: 1 AIN4-, 2 AIN4+, 4 AIN3-, 5 AIN3+, 10 AIN2-, 11 AIN2+, 13 AIN1-, 14 AIN1+, 23 ~{SDR}/DDR, 24 ~{CNV}, 25 ~{CMOS}/LVDS, 27 SDO1/SDOA+, 28 DNC/SDOA-, 29 SDO2/SDOB+, 30 DNC/SDOB-, 33 CLKOUT/CLKOUT+, 34 ~{CLKOUTEN}/CLKOUT-, 35 SDO3/SDOC+, 36 DNC/SDOC-, 39 SDO4/SDOD+, 40 DNC/SDOD-, 41 SCK/SCK+, 42 DNC/SCK-, 43 REFBUFEN
part B pins: 3 GND_1, 6 REFOUT3, 7 GND_2, 8 REF, 9 REFOUT2, 12 GND_3, 15 VDD_1, 16 NC_1, 17 NC_2, 18 GND_4, 19 NC_3, 20 NC_4, 21 VDD_2, 22 REFOUT1, 26 GND_5, 31 OVDD_1, 32 GND_6, 37 OVDD_2, 38 GND_7, 44 VDD_3, 45 REFOUT4, 46 GND_8, 47 NC_5, 48 NC_6, 49 GND_9, 50 NC_7, 51 NC_8, 52 VDD_4, 53 GND_10

## LTC2357CLX-18
designator IC?
18-bit, low noise 4-channel / simultaneous sampling successive approximation register (SAR) ADC with buffered differential, wide common mode range picoamp inputs; Manufacturer: Analog Devices; Manufacturer P/N: LTC2357CLX-18#PBF; Height (mm): 1.6; Supplier Part Number 1: 584-LTC2357CLX-18PBF; Mounting Technology: SMT; Supplier 1: Mouser; ComponentLink1Description: Datasheet; ComponentLink1URL: https://www.mouser.com/datasheet/2/609/235718f-1266978.pdf
footprint QFP50P900X900X160-48N
part A pins: 3 IN2-, 4 IN2+, 9 IN1-, 10 IN1+, 13 IN0-, 14 IN0+, 22 PD, 23 LVDS/~{CMOS}, 24 CNV, 26 SDI+, 27 SDI-/SDO0, 28 SCKI+/SDO1, 29 SCKI-/SCKI, 32 SCKO+/SCKO, 33 SCKO-/SDO2, 34 SDO+/SDO3, 35 SDO-, 37 SDI, 38 BUSY, 39 ~{CS}, 47 IN3-, 48 IN3+
part B pins: 1 GND_1, 2 GND_2, 5 GND_3, 6 GND_4, 7 GND_5, 8 GND_6, 11 GND_7, 12 GND_8, 15 GND_9, 16 VCC, 17 VEE_1, 18 GND_10, 19 REFIN, 20 GND_11, 21 REFBUF, 25 GND_12, 30 GND_13, 31 OVDD, 36 GND_14, 40 VDDLBYP, 41 GND_15, 42 VDD_1, 43 VDD_2, 44 GND_16, 45 VEE_2, 46 GND_17

## LTC2500IDKD-32
designator U?, comment LTC2500IDKD-32#PBF  Supplier Part Number 1: 584-2500IDKD32PBF
1-Channel Single ADC SAR 1Msps 32-bit Serial 24-Pin DFN EP Tube; Manufacturer: Linear Technology; RoHS Compliant: Yes; Supplier 1: Mouser; Manufacturer P/N: LTC2500IDKD-32#PBF; RoHS: Yes; Category: Analog to Digital Converters (ADCs); Stock 1: 2; Pricing 1: 1=79,85000, 10=75,86000, 50=73,86000, 100=73,86000, 1000=73,86000, 10000=73,86000 (USD); ComponentLink1URL: http://www.analog.com/media/en/technical-documentation/data-sheets/250032fb.pdf?src-supplier=Digi-Key; ComponentLink1Description: http://www.analog.com/media/en/technical-documentation/data-sheets/250032fb.pdf?src-supplier=Digi-Key; ComponentLink2Description: Manufacturer; ComponentLink2URL: https://www.analog.com/en/products/ltc2500-32.html; ComponentLink3Description: Datasheet; ComponentLink3URL: https://www.analog.com/media/en/technical-documentation/data-sheets/250032fb.pdf; Mounting Technology: SMT
footprint DFN-24_M (DKD Package 24 Lead Plastic DFN (7mmx4mm))
pins: 1 RDLA (out), 2 RDLB (out), 3 VDD (power), 4 GND (power), 5 IN+ (hiz), 6 IN- (hiz), 7 GND (power), 8 REF1, 9 REF2, 10 PRE (in), 11 GND (power), 12 GND (power), 13 MCLK (in), 14 SYNC (in), 15 DRL (out), 16 SDI (in), 17 SDOA (out), 18 SCKA (in), 19 SCKB (in), 20 SDOB (out), 21 BUSY, 22 OVDD (power), 23 GND (power), 24 GND (power), 25 GND (power)

## LTC2875HS8#PBF
designator IC?
robust high speed, low power CAN / transceiver operating on 3.3V or 5V supplies that features / ±60V overvoltage fault protection; Manufacturer: Linear Technology; Manufacturer P/N: LTC2875HS8#PBF; Height (mm): 1.752; Mounting Technology: SMT; Supplier 1: Mouser; Supplier Part Number 1: 584-LTC2875HS8#PBF; ComponentLink1Description: Datasheet; ComponentLink1URL: http://www.linear.com/docs/46014
footprint SOIC127P599X175-8N
pins: 1 TXD, 2 GND, 3 VCC, 4 RXD, 5 SPLIT, 6 CANL, 7 CANH, 8 RS

## LTC3300-1
designator B?
High Efficiency Bidirectional Multicell Battery Balancer; Manufacturer: Analog Devices; Manufacturer P/N: LTC3300-1; Datasheet Link: http://cds.linear.com/docs/en/datasheet/33001fb.pdf; Height (mm): 1.6; Mounting Technology: SMT
footprint QFP50P900X900X160-49N
pins: 1 G6S, 2 I6S, 3 G5S, 4 I5S, 5 G4S, 6 I4S, 7 G3S, 8 I3S, 9 G2S, 10 I2S, 11 G1S, 12 I1S, 13 RTONS, 14 RTONP, 15 CTRL, 16 CSBI, 17 SCLKI, 18 SDI, 19 SDO, 20 WDT, 21 V-_1, 22 I1P, 23 G1P, 24 C1, 25 I2P, 26 G2P, 27 C2, 28 I3P, 29 G3P, 30 C3, 31 I4P, 32 G4P, 33 C4, 34 I5P, 35 G5P, 36 C5, 37 I6P, 38 G6P, 39 C6, 40 BOOST+, 41 BOOST-, 42 BOOST, 43 SDOI, 44 SCKO, 45 CSBO, 46 VMODE, 47 TOS, 48 VREG, 49 V-_2

## LTC3300-2
designator B?
High Efficiency Bidirectional Multicell Battery Balancer; Manufacturer: Analog Devices; Manufacturer P/N: LTC3300-2; Datasheet Link: http://cds.linear.com/docs/en/datasheet/33001fb.pdf; Height (mm): 1.6; Mounting Technology: SMT
footprint QFP50P900X900X160-49N
pins: 1 G6S, 2 I6S, 3 G5S, 4 I5S, 5 G4S, 6 I4S, 7 G3S, 8 I3S, 9 G2S, 10 I2S, 11 G1S, 12 I1S, 13 RTONS, 14 RTONP, 15 CTRL, 16 CSBI, 17 SCLKI, 18 SDI, 19 SDO, 20 WDT, 21 V-_1, 22 I1P, 23 G1P, 24 C1, 25 I2P, 26 G2P, 27 C2, 28 I3P, 29 G3P, 30 C3, 31 I4P, 32 G4P, 33 C4, 34 I5P, 35 G5P, 36 C5, 37 I6P, 38 G6P, 39 C6, 40 BOOST+, 41 BOOST-, 42 BOOST, 43 A0, 44 A1, 45 A2, 46 A3, 47 A4, 48 VREG, 49 V-_2

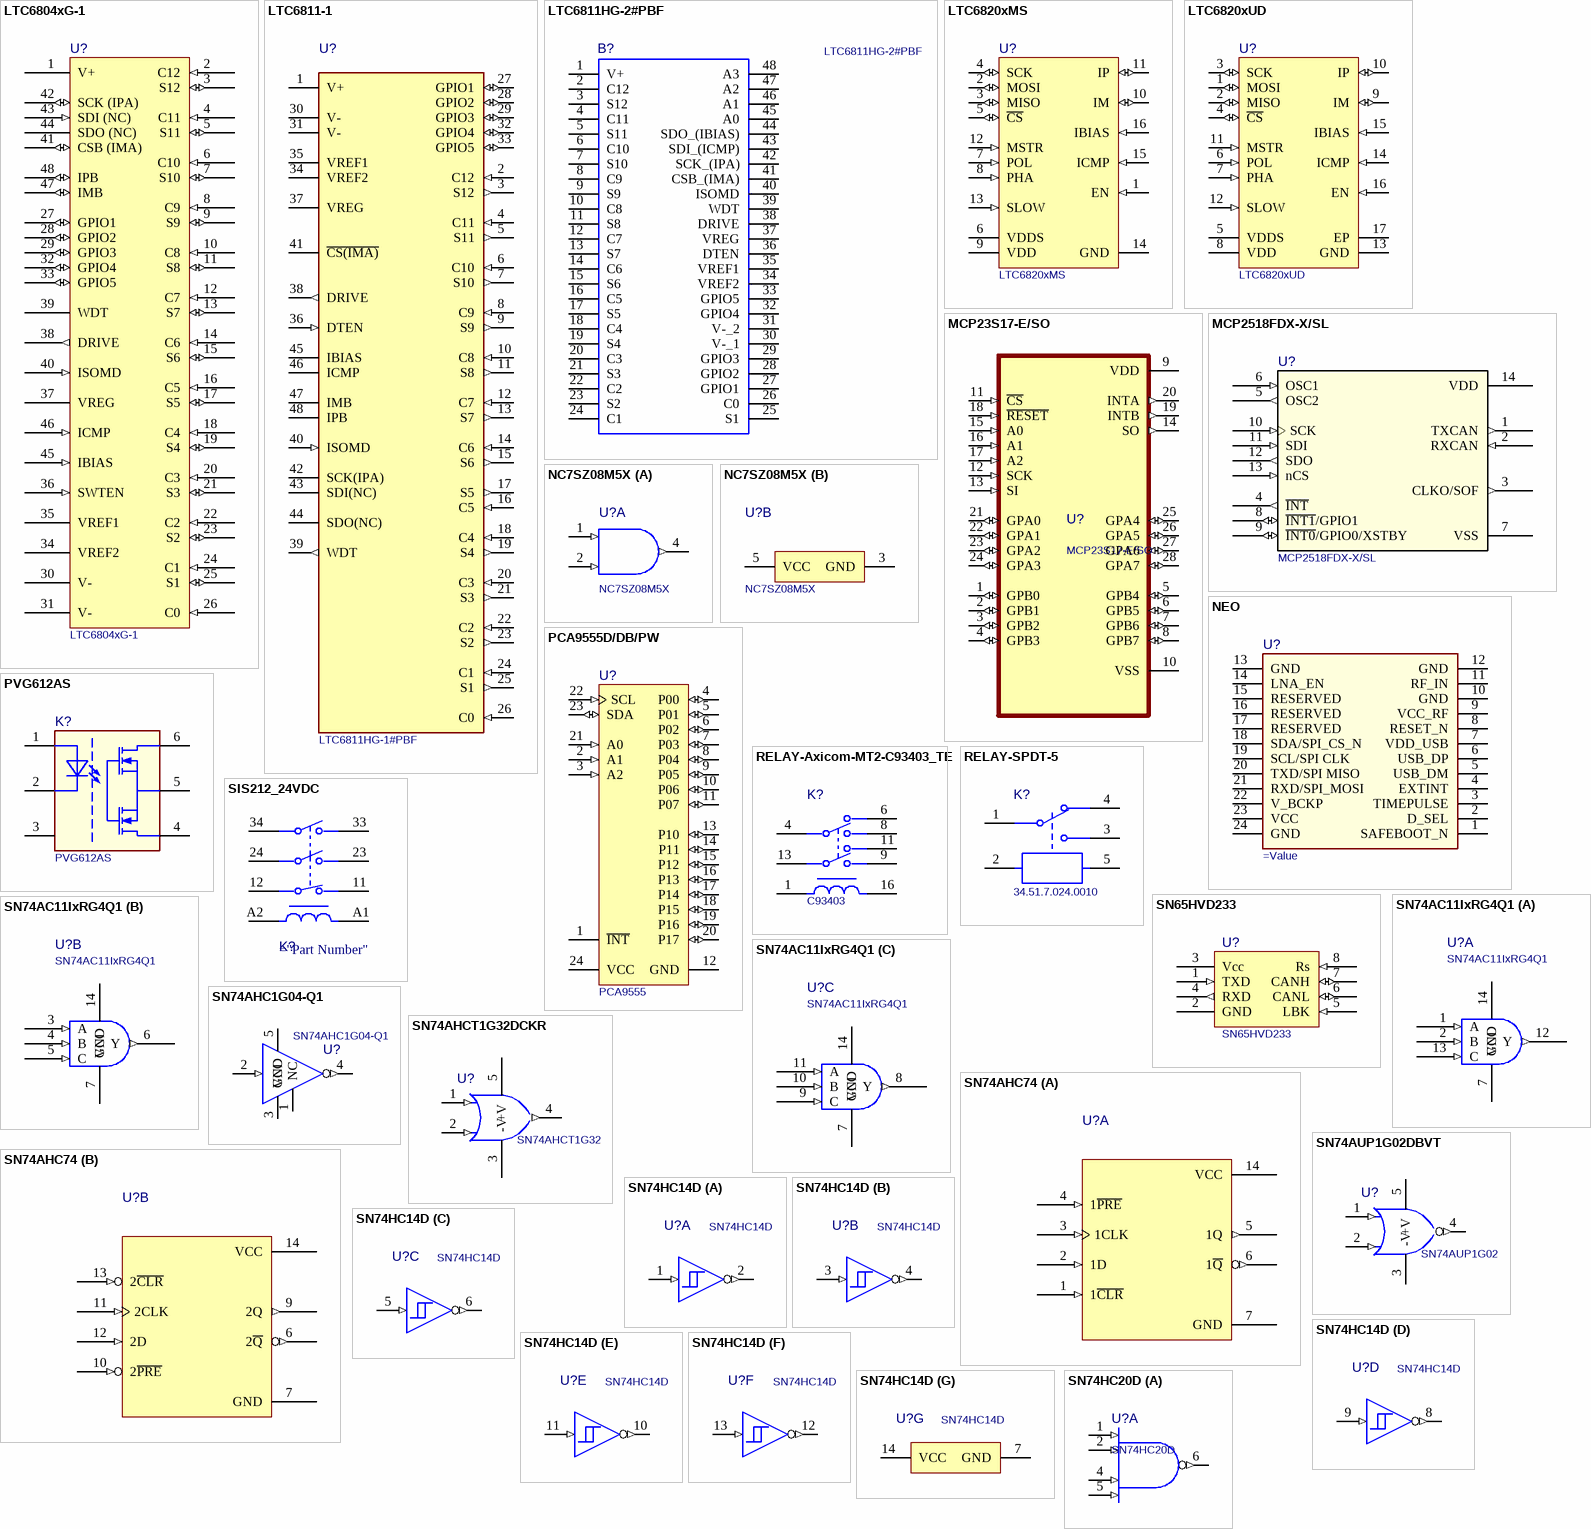
[diagram p5: symbols LTC6804xG-1 to SN74HC20D]

## LTC6804xG-1
designator U?
Battery Monitoring Li-Ion 5.6V Automotive 48-Pin SSOP Tube; Manufacturer: Analog Devices / Linear Technology; Pin Number: 48; Interface: I2C,SPI; Number of Batteries: 12; Max Input Voltage: 60V; Min Supply Voltage: 4.5V; Max Supply Voltage: 5.5V; Manufacturer P/N: LTC6804xG-1; RoHS: Yes; Category: Battery Management; Pricing 1: 1=29,93000, 5=28,77000, 10=27,60000, 25=26,36000, 50=24,97000, 100=23,57000, 250=22,49000 (USD); Case/Package: G; Min Operating Temperature: -40°C; Max Operating Temperature: 125°C; Package Quantity: 37; Packaging: Rail/Tube; RoHS Compliant: Yes; REACH SVHC: No SVHC; ComponentLink1URL: https://datasheet.ciiva.com/22725/1780638-22725285.pdf?src-supplier=Element14; ComponentLink1Description: https://datasheet.ciiva.com/22725/1780638-22725285.pdf?src-supplier=Element14; ComponentLink2URL: https://datasheet.ciiva.com/18617/43171-18617607.pdf?src-supplier=Digi-Key; ComponentLink2Description: https://datasheet.ciiva.com/18617/43171-18617607.pdf?src-supplier=Digi-Key; ComponentLink3URL: https://datasheet.ciiva.com/22802/1780638-22802890.pdf?src-supplier=Farnell; ComponentLink3Description: https://datasheet.ciiva.com/22802/1780638-22802890.pdf?src-supplier=Farnell; Supplier 1: Mouser; Supplier 2: Digi-Key; Supplier 3: Farnell; Supplier 4: Newark; Supplier Part Number 1: 584-LTC6804HG-1#PBF; Supplier Part Number 2: 505-LTC6804HG-1#PBF-ND; Supplier Part Number 3: 2354420; Supplier Part Number 4: 50AK3973; Mounting Technology: SMT
footprint FP-G-48-05-08-1887-IPC_A
footprint FP-G-48-05-08-1887-IPC_B
footprint FP-G-48-05-08-1887-IPC_C
footprint FP-G-48-05-08-1887-MFG
pins: 1 V+ (power) "Positive Supply Pin.", 2 C12 (in) "Cell Inputs.", 3 S12 (io) "Balance Inputs/Outputs. 12 N-MOSFETs are connected between S(n) and C(n - 1) for discharging cells.", 4 C11 (in) "Cell Inputs.", 5 S11 (io) "Balance Inputs/Outputs. 12 N-MOSFETs are connected between S(n) and C(n - 1) for discharging cells.", 6 C10 (in) "Cell Inputs.", 7 S10 (io) "Balance Inputs/Outputs. 12 N-MOSFETs are connected between S(n) and C(n - 1) for discharging cells.", 8 C9 (in) "Cell Inputs.", 9 S9 (io) "Balance Inputs/Outputs. 12 N-MOSFETs are connected between S(n) and C(n - 1) for discharging cells.", 10 C8 (in) "Cell Inputs.", 11 S8 (io) "Balance Inputs/Outputs. 12 N-MOSFETs are connected between S(n) and C(n - 1) for discharging cells.", 12 C7 (in) "Cell Inputs.", 13 S7 (io) "Balance Inputs/Outputs. 12 N-MOSFETs are connected between S(n) and C(n - 1) for discharging cells.", 14 C6 (in) "Cell Inputs.", 15 S6 (io) "Balance Inputs/Outputs. 12 N-MOSFETs are connected between S(n) and C(n - 1) for discharging cells.", 16 C5 (in) "Cell Inputs.", 17 S5 (io) "Balance Inputs/Outputs. 12 N-MOSFETs are connected between S(n) and C(n - 1) for discharging cells.", 18 C4 (in) "Cell Inputs.", 19 S4 (io) "Balance Inputs/Outputs. 12 N-MOSFETs are connected between S(n) and C(n - 1) for discharging cells.", 20 C3 (in) "Cell Inputs.", 21 S3 (io) "Balance Inputs/Outputs. 12 N-MOSFETs are connected between S(n) and C(n - 1) for discharging cells.", 22 C2 (in) "Cell Inputs.", 23 S2 (io) "Balance Inputs/Outputs. 12 N-MOSFETs are connected between S(n) and C(n - 1) for discharging cells.", 24 C1 (in) "Cell Inputs.", 25 S1 (io) "Balance Inputs/Outputs. 12 N-MOSFETs are connected between S(n) and C(n - 1) for discharging cells.", 26 C0 (in) "Cell Inputs.", 27 GPIO1 (io) "General Purpose I/O. Can be used as digital inputs or digital outputs, or as analog inputs with a measurement range from V- to 5V.", 28 GPIO2 (io) "General Purpose I/O. Can be used as digital inputs or digital outputs, or as analog inputs with a measurement range from V- to 5V.", 29 GPIO3 (io) "General Purpose I/O. Can be used as digital inputs or digital outputs, or as analog inputs with a measurement range from V- to 5V. GPIO [3:5] can be used as an I2C or SPI port.", 30 V- (power) "Negative Supply Pins. The V- pins must be shorted together, external to the IC.", 31 V- (power) "Negative Supply Pins. The V- pins must be shorted together, external to the IC.", 32 GPIO4 (io) "General Purpose I/O. Can be used as digital inputs or digital outputs, or as analog inputs with a measurement range from V- to 5V. GPIO [3:5] can be used as an I2C or SPI port.", 33 GPIO5 (io) "General Purpose I/O. Can be used as digital inputs or digital outputs, or as analog inputs with a measurement range from V- to 5V. GPIO [3:5] can be used as an I2C or SPI port.", 34 VREF2 "Buffered 2nd reference voltage for driving multiple 10k thermistors. Bypass with an external 1uF capacitor.", 35 VREF1 "ADC Reference Voltage. Bypass with an external 1uF capacitor. No DC loads allowed.", 36 SWTEN (in) "Software Timer Enable. Connect this pin to VREG to enable the software timer.", 37 VREG (power) "5V Regulator Input. Bypass with an external 1uF capacitor.", 38 DRIVE (out) "Connect the base of an NPN to this pin. Connect the collector to V+ and the emitter to VREG.", 39 WDT (hiz) "Watchdog Timer Output Pin. This is an open drain NMOS digital output. It can be left unconnected or connected with a 1M resistor to VREG. If the LTC6804 does not receive a valid command within 2 seconds, the watchdog timer (See Datasheet)", 40 ISOMD (in) "Serial Interface Mode. Connecting ISOMD to VREG configures Pins 41 to 44 of the LTC6804 for 2-wire isolated interface (isoSPI) mode. Connecting ISOMD to V- configures the LTC6804 for 4-wire SPI mode.", 41 CSB (IMA) (io), 42 SCK (IPA) (io), 43 SDI (NC) (in), 44 SDO (NC) (oc), 45 IBIAS (in) "Isolated Interface Current Bias. Tie IBIAS to V- through a resistor divider to set the interface output current level. When the isoSPI interface is enabled, the IBIAS pin voltage is 2V. The IPA/IMA or IPB/IMB output current (See Datasheet)", 46 ICMP (in) "Isolated Interface Comparator Voltage Threshold Set. Tie this pin to the resistor divider between IBIAS and V- to set the voltage threshold of the isoSPI receiver comparators. The comparator thresholds are set to 1/2 the (See Datasheet)", 47 IMB (io) "Isolated 2-Wire Serial Interface Port B. IMB (minus) are a differential input/output pair.", 48 IPB (io) "Isolated 2-Wire Serial Interface Port B. IPB (plus) are a differential input/output pair."

## LTC6811-1
designator U?, comment LTC6811HG-1#PBF
IC MONITOR BATT STACK 48SSOP; Manufacturer: Analog Devices; Max Supply Voltage: 55V; Min Supply Voltage: 4.5V; Standoff Height: 0.05mm; Number Of Cells: 12; Max Junction Temp: +150°C; Lead Free: Yes; Automotive: No; Temperature Range High: +125°C; RoHS: TRUE; Device Class L3: Battery Management; Height (mm): 2; Device Class L1: Integrated Circuits (ICs); Digikey Description: IC MONITOR BATT STACK 48SSOP; Device Class L2: Power Management ICs; Mouser Description: Sc-Automotive Multicell Battery Stack Monitor With Addressable Isospi Interface; Temperature Range Low: -40°C; Category: IC; Temperature: -40°C to +125°C; Package: G-48-05-08-1887; Manufacturer P/N: LTC6811HG-1#PBF; ComponentLink3Description: Website; ComponentLink3URL: https://www.analog.com/en/products/ltc6811-1.html; ComponentLink4Description: Datasheet; ComponentLink4URL: https://www.analog.com/media/en/technical-documentation/data-sheets/68111fb.pdf; ComponentLink5Description: Octopart; ComponentLink5URL: https://octopart.com/ltc6811hg-1%23pbf-analog+devices-88968888; Supplier 1: Mouser; Supplier Part Number 1: 584-LTC6811HG-1#PBF; Supplier 2: Mouser; Supplier Part Number 2: 584-LTC6811HG-1TRPBF; Mounting Technology: SMT
footprint FP-G-48-05-08-1887-IPC_A
footprint FP-G-48-05-08-1887-IPC_B
footprint FP-G-48-05-08-1887-IPC_C
footprint FP-G-48-05-08-1887-MFG
pins: 1 V+ (power), 2 C12 (in), 3 S12 (out), 4 C11 (in), 5 S11 (out), 6 C10 (in), 7 S10 (out), 8 C9 (in), 9 S9 (out), 10 C8 (in), 11 S8 (out), 12 C7 (in), 13 S7 (out), 14 C6 (in), 15 S6 (out), 16 C5 (in), 17 S5 (out), 18 C4 (in), 19 S4 (out), 20 C3 (in), 21 S3 (out), 22 C2 (in), 23 S2 (out), 24 C1 (in), 25 S1 (out), 26 C0 (in), 27 GPIO1 (io), 28 GPIO2 (io), 29 GPIO3 (io), 30 V- (power), 31 V- (power), 32 GPIO4 (io), 33 GPIO5 (io), 34 VREF2 (power), 35 VREF1 (power), 36 DTEN (in), 37 VREG (power), 38 DRIVE (out), 39 WDT (out), 40 ISOMD (in), 41 ~{CS(IMA)}, 42 SCK(IPA), 43 SDI(NC), 44 SDO(NC), 45 IBIAS, 46 ICMP, 47 IMB, 48 IPB

## LTC6811HG-2#PBF
designator B?
Multicell Battery Balancer Automotive 48-Pin SSOP Tube; Manufacturer: Analog Devices; Manufacturer P/N: LTC6811HG-2#PBF; Mounting Technology: SMT; Height (mm): 2; Supplier 1: Mouser; Supplier Part Number 1: 584-LTC6811HG-2#PBF; Supplier 2: Mouser; Supplier Part Number 2: 584-LTC6811HG-2TRPBF; ComponentLink1Description: Website; ComponentLink1URL: https://www.analog.com/en/products/ltc6811-2.html; ComponentLink2Description: Datasheet; ComponentLink2URL: https://www.analog.com/media/en/technical-documentation/data-sheets/LTC6811-1-6811-2.pdf
footprint SOP50P780X200-48N
pins: 1 V+, 2 C12, 3 S12, 4 C11, 5 S11, 6 C10, 7 S10, 8 C9, 9 S9, 10 C8, 11 S8, 12 C7, 13 S7, 14 C6, 15 S6, 16 C5, 17 S5, 18 C4, 19 S4, 20 C3, 21 S3, 22 C2, 23 S2, 24 C1, 25 S1, 26 C0, 27 GPIO1, 28 GPIO2, 29 GPIO3, 30 V-_1, 31 V-_2, 32 GPIO4, 33 GPIO5, 34 VREF2, 35 VREF1, 36 DTEN, 37 VREG, 38 DRIVE, 39 WDT, 40 ISOMD, 41 CSB_(IMA), 42 SCK_(IPA), 43 SDI_(ICMP), 44 SDO_(IBIAS), 45 A0, 46 A1, 47 A2, 48 A3